# EAGLE library part DRV8312 (library pavlo)
edit this description Auto generated by make-symbol-device-package-bsdl.ulp Rev. 43 Source:
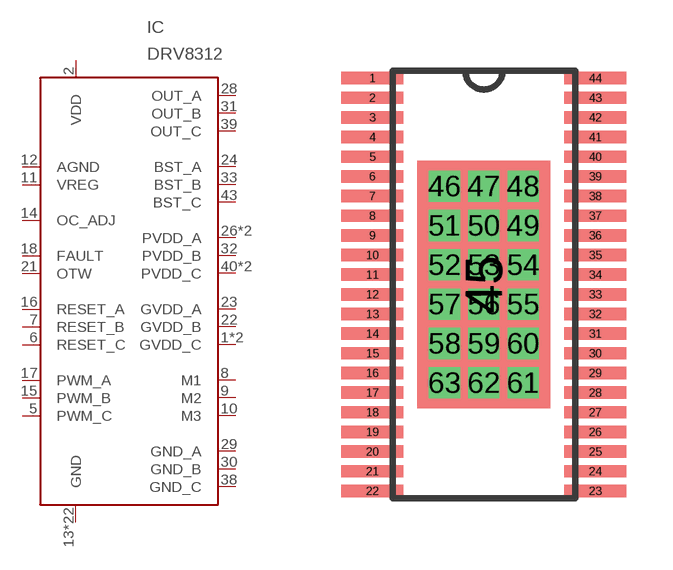
[diagram p2: symbol with the pads of TSSOP-44-POWERPAD; footprint TSSOP-44-POWERPAD]

Designator prefix IC

## DRV8312A  [TSSOP-44-POWERPAD]
1  GVDD_C  pwr
2  VDD  pwr
5  PWM_C  in
6  RESET_C  in
7  RESET_B  in
8  M1  out
9  M2  out
10  M3  out
11  VREG  pwr
12  AGND  pwr
13  GND  pwr
14  OC_ADJ  in
15  PWM_B  in
16  RESET_A  in
17  PWM_A  in
18  FAULT  out
21  OTW  out
22  GVDD_B  pwr
23  GVDD_A  pwr
24  BST_A  pwr
26  PVDD_A  pwr
27  PVDD_A  pwr
28  OUT_A  out
29  GND_A  pwr
30  GND_B  pwr
31  OUT_B  out
32  PVDD_B  pwr
33  BST_B  pwr
36  GND  pwr
37  GND  pwr
38  GND_C  pwr
39  OUT_C  out
40  PVDD_C  pwr
41  PVDD_C  pwr
43  BST_C  pwr
44  GVDD_C  pwr
45  GND  pwr
46  GND  pwr
47  GND  pwr
48  GND  pwr
49  GND  pwr
50  GND  pwr
51  GND  pwr
52  GND  pwr
53  GND  pwr
54  GND  pwr
55  GND  pwr
56  GND  pwr
57  GND  pwr
58  GND  pwr
59  GND  pwr
60  GND  pwr
61  GND  pwr
62  GND  pwr
63  GND  pwr

## Footprint TSSOP-44-POWERPAD (pad centres in mm)
TSSOP-44-POWERPAD Auto generated by make-symbol-device-package-bsdl.ulp Rev. 43
smd 2 x 0.4: 1 -3.6,6.668; 2 -3.6,6.032; 3 -3.6,5.397; 4 -3.6,4.763; 5 -3.6,4.128; 6 -3.6,3.493; 7 -3.6,2.857; 8 -3.6,2.223; 9 -3.6,1.587; 10 -3.6,0.953; 11 -3.6,0.318; 12 -3.6,-0.318; 13 -3.6,-0.953; 14 -3.6,-1.587; 15 -3.6,-2.223; 16 -3.6,-2.857; 17 -3.6,-3.493; 18 -3.6,-4.128; 19 -3.6,-4.763; 20 -3.6,-5.397; 21 -3.6,-6.032; 22 -3.6,-6.668; 23 3.6,-6.668; 24 3.6,-6.032; 25 3.6,-5.397; 26 3.6,-4.763; 27 3.6,-4.128; 28 3.6,-3.493; 29 3.6,-2.857; 30 3.6,-2.223; 31 3.6,-1.587; 32 3.6,-0.953; 33 3.6,-0.318; 34 3.6,0.318; 35 3.6,0.953; 36 3.6,1.587; 37 3.6,2.223; 38 3.6,2.857; 39 3.6,3.493; 40 3.6,4.128; 41 3.6,4.763; 42 3.6,5.397; 43 3.6,6.032; 44 3.6,6.668
smd 4.3 x 8: 45 0,0
drill 0.5 square: 46 -1.27,3.175; 47 0,3.175; 48 1.27,3.175; 49 1.27,1.905; 50 0,1.905; 51 -1.27,1.905; 52 -1.27,0.635; 53 0,0.635; 54 1.27,0.635; 55 1.27,-0.635; 56 0,-0.635; 57 -1.27,-0.635; 58 -1.27,-1.905; 59 0,-1.905; 60 1.27,-1.905; 61 1.27,-3.175; 62 0,-3.175; 63 -1.27,-3.175